# Altium footprint library Connector - FFC_FPC.PcbLib: 57 footprints (part 2 of 4)
Each footprint in its own frame and in the unit in brackets; x right, y up, seen from the top. Pads: shape width x height; smd on the part's side, far side on the other; paste and mask are expansions set on the pad; w line width, h text height; cw(c..) or ccw(c..) is an arc to the next point about the centre after c.
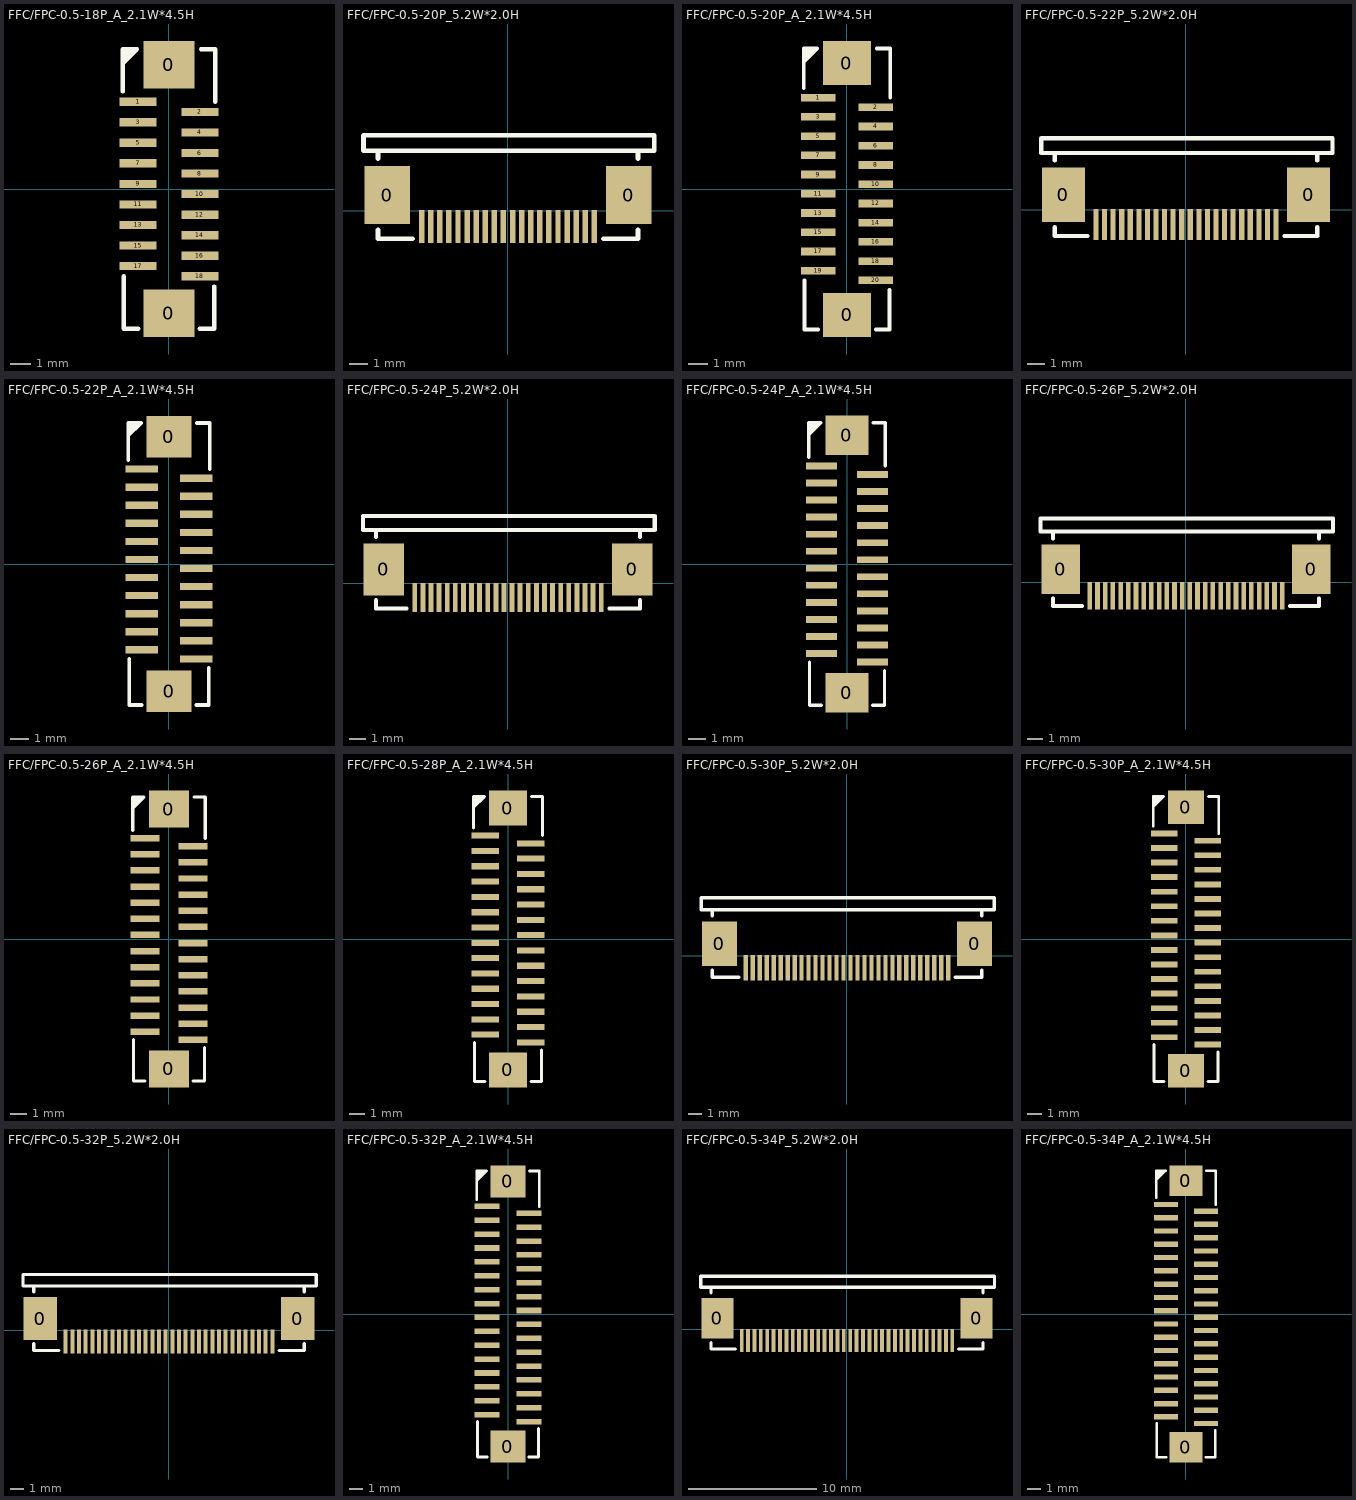
[diagram p1: the footprints below, top view; thin cyan lines are the x and y axes]

## FFC/FPC-0.5-18P_A_2.1W*4.5H [mm]
pads (20):
  rect 2.5x2.3 smd: 0(0,-6.05) 0(0,6.05)
  rect 1.8x0.4 smd: 1(-1.5,4.25) 2(1.5,3.75) 3(-1.5,3.25) 4(1.5,2.75) 5(-1.5,2.25) 6(1.5,1.75) 7(-1.5,1.25) 8(1.5,0.75) 9(-1.5,0.25) 10(1.5,-0.25) 11(-1.5,-0.75) 12(1.5,-1.25) 13(-1.5,-1.75) 14(1.5,-2.25) 15(-1.5,-2.75) 16(1.5,-3.25) 17(-1.5,-3.75) 18(1.5,-4.25)
Top Overlay:
  region: -2.25,6.8 -1.55,6.8 -2.25,6.1
  lines w0.203: -2.25,4.75 -2.25,6.8 -1.55,6.8 ; -2.25,6.1 -1.55,6.8 ; -2.2,-4.25 -2.2,-6.8 -1.5,-6.8 ; 1.5,-6.8 2.2,-6.8 2.2,-4.75 ; 1.55,6.8 2.25,6.8 2.25,4.25 ; -1.55,6.8 -1.55,6.8

## FFC/FPC-0.5-20P_5.2W*2.0H [mm]
pads (22):
  rect 2.5x3.2 smd: 0(-6.65,0.863) 0(6.65,0.863)
  rect 0.3x1.8 smd: 1(-4.75,-0.863) 2(-4.25,-0.863) 3(-3.75,-0.863) 4(-3.25,-0.863) 5(-2.75,-0.863) 6(-2.25,-0.863) 7(-1.75,-0.863) 8(-1.25,-0.863) 9(-0.75,-0.863) 10(-0.25,-0.863) 11(0.25,-0.863) 12(0.75,-0.863) 13(1.25,-0.863) 14(1.75,-0.863) 15(2.25,-0.863) 16(2.75,-0.863) 17(3.25,-0.863) 18(3.75,-0.863) 19(4.25,-0.863) 20(4.75,-0.863)
Top Overlay:
  lines w0.254: -7.15,-1.037 -7.15,-1.538 -5.25,-1.538 ; -7.15,2.863 -7.15,3.303 ; 5.25,-1.538 7.15,-1.538 7.15,-1.037 ; 7.15,2.863 7.15,3.303 ; 7.15,3.303 8.05,3.303 8.05,4.163 -7.95,4.163 -7.95,3.303 7.15,3.303

## FFC/FPC-0.5-20P_A_2.1W*4.5H [mm]
pads (22):
  rect 2.5x2.3 smd: 0(0,6.55) 0(0,-6.55)
  rect 1.8x0.4 smd: 1(-1.5,4.75) 2(1.5,4.25) 3(-1.5,3.75) 4(1.5,3.25) 5(-1.5,2.75) 6(1.5,2.25) 7(-1.5,1.75) 8(1.5,1.25) 9(-1.5,0.75) 10(1.5,0.25) 11(-1.5,-0.25) 12(1.5,-0.75) 13(-1.5,-1.25) 14(1.5,-1.75) 15(-1.5,-2.25) 16(1.5,-2.75) 17(-1.5,-3.25) 18(1.5,-3.75) 19(-1.5,-4.25) 20(1.5,-4.75)
Top Overlay:
  region: -2.25,7.3 -1.55,7.3 -2.25,6.6
  lines w0.203: -2.25,5.25 -2.25,7.3 -1.55,7.3 ; -2.25,6.6 -1.55,7.3 ; -2.2,-4.75 -2.2,-7.3 -1.5,-7.3 ; 1.5,-7.3 2.2,-7.3 2.2,-5.25 ; 1.55,7.3 2.25,7.3 2.25,4.75 ; -1.55,7.3 -1.55,7.3

## FFC/FPC-0.5-22P_5.2W*2.0H [mm]
pads (24):
  rect 2.5x3.2 smd: 0(-7.15,0.863) 0(7.15,0.863)
  rect 0.3x1.8 smd: 1(-5.25,-0.862) 2(-4.75,-0.862) 3(-4.25,-0.862) 4(-3.75,-0.862) 5(-3.25,-0.862) 6(-2.75,-0.862) 7(-2.25,-0.862) 8(-1.75,-0.862) 9(-1.25,-0.862) 10(-0.75,-0.862) 11(-0.25,-0.862) 12(0.25,-0.862) 13(0.75,-0.862) 14(1.25,-0.862) 15(1.75,-0.862) 16(2.25,-0.862) 17(2.75,-0.862) 18(3.25,-0.862) 19(3.75,-0.862) 20(4.25,-0.862) 21(4.75,-0.862) 22(5.25,-0.862)
Top Overlay:
  lines w0.254: -7.65,-1.037 -7.65,-1.537 -5.75,-1.537 ; -7.65,2.863 -7.65,3.303 ; 5.75,-1.537 7.65,-1.537 7.65,-1.037 ; 7.65,2.863 7.65,3.303 ; 7.65,3.303 -8.45,3.303 -8.45,4.163 8.55,4.163 8.55,3.303 7.65,3.303

## FFC/FPC-0.5-22P_A_2.1W*4.5H [mm]
pads (24):
  rect 2.5x2.3 smd: 0(0,7.05) 0(0,-7.05)
  rect 1.8x0.4 smd: 1(-1.5,5.25) 2(1.5,4.75) 3(-1.5,4.25) 4(1.5,3.75) 5(-1.5,3.25) 6(1.5,2.75) 7(-1.5,2.25) 8(1.5,1.75) 9(-1.5,1.25) 10(1.5,0.75) 11(-1.5,0.25) 12(1.5,-0.25) 13(-1.5,-0.75) 14(1.5,-1.25) 15(-1.5,-1.75) 16(1.5,-2.25) 17(-1.5,-2.75) 18(1.5,-3.25) 19(-1.5,-3.75) 20(1.5,-4.25) 21(-1.5,-4.75) 22(1.5,-5.25)
Top Overlay:
  region: -2.25,7.8 -1.55,7.8 -2.25,7.1
  lines w0.203: -2.25,5.75 -2.25,7.8 -1.55,7.8 ; -2.25,7.1 -1.55,7.8 ; -2.2,-5.25 -2.2,-7.8 -1.5,-7.8 ; 1.5,-7.8 2.2,-7.8 2.2,-5.75 ; 1.55,7.8 2.25,7.8 2.25,5.25 ; -1.55,7.8 -1.55,7.8

## FFC/FPC-0.5-24P_5.2W*2.0H [mm]
pads (26):
  rect 2.5x3.2 smd: 0(-7.65,0.863) 0(7.65,0.863)
  rect 0.3x1.8 smd: 1(-5.75,-0.863) 2(-5.25,-0.863) 3(-4.75,-0.863) 4(-4.25,-0.863) 5(-3.75,-0.863) 6(-3.25,-0.863) 7(-2.75,-0.863) 8(-2.25,-0.863) 9(-1.75,-0.863) 10(-1.25,-0.863) 11(-0.75,-0.863) 12(-0.25,-0.863) 13(0.25,-0.863) 14(0.75,-0.863) 15(1.25,-0.863) 16(1.75,-0.863) 17(2.25,-0.863) 18(2.75,-0.863) 19(3.25,-0.863) 20(3.75,-0.863) 21(4.25,-0.863) 22(4.75,-0.863) 23(5.25,-0.863) 24(5.75,-0.863)
Top Overlay:
  lines w0.254: -8.15,-1.037 -8.15,-1.538 -6.25,-1.538 ; -8.15,2.863 -8.15,3.303 ; 6.25,-1.538 8.15,-1.538 8.15,-1.037 ; 8.15,2.863 8.15,3.303 ; 8.15,3.303 -8.95,3.303 -8.95,4.163 9.05,4.163 9.05,3.303 8.15,3.303
3D body "71127.stp": height 1.82, standoff -0.05, extent -8.75,-0.9 8.75,4

## FFC/FPC-0.5-24P_A_2.1W*4.5H [mm]
pads (26):
  rect 2.5x2.3 smd: 0(0,-7.55) 0(0,7.55)
  rect 1.8x0.4 smd: 1(-1.5,5.75) 2(1.5,5.25) 3(-1.5,4.75) 4(1.5,4.25) 5(-1.5,3.75) 6(1.5,3.25) 7(-1.5,2.75) 8(1.5,2.25) 9(-1.5,1.75) 10(1.5,1.25) 11(-1.5,0.75) 12(1.5,0.25) 13(-1.5,-0.25) 14(1.5,-0.75) 15(-1.5,-1.25) 16(1.5,-1.75) 17(-1.5,-2.25) 18(1.5,-2.75) 19(-1.5,-3.25) 20(1.5,-3.75) 21(-1.5,-4.25) 22(1.5,-4.75) 23(-1.5,-5.25) 24(1.5,-5.75)
Top Overlay:
  region: -2.25,8.3 -1.55,8.3 -2.25,7.6
  lines w0.203: -2.25,6.25 -2.25,8.3 -1.55,8.3 ; -2.25,7.6 -1.55,8.3 ; -2.2,-5.75 -2.2,-8.3 -1.5,-8.3 ; 1.5,-8.3 2.2,-8.3 2.2,-6.25 ; 1.55,8.3 2.25,8.3 2.25,5.75 ; -1.55,8.3 -1.55,8.3

## FFC/FPC-0.5-26P_5.2W*2.0H [mm]
pads (28):
  rect 2.5x3.2 smd: 0(-8.15,0.863) 0(8.15,0.863)
  rect 0.3x1.8 smd: 1(-6.25,-0.863) 2(-5.75,-0.863) 3(-5.25,-0.863) 4(-4.75,-0.863) 5(-4.25,-0.863) 6(-3.75,-0.863) 7(-3.25,-0.863) 8(-2.75,-0.863) 9(-2.25,-0.863) 10(-1.75,-0.863) 11(-1.25,-0.863) 12(-0.75,-0.863) 13(-0.25,-0.863) 14(0.25,-0.863) 15(0.75,-0.863) 16(1.25,-0.863) 17(1.75,-0.863) 18(2.25,-0.863) 19(2.75,-0.863) 20(3.25,-0.863) 21(3.75,-0.863) 22(4.25,-0.863) 23(4.75,-0.863) 24(5.25,-0.863) 25(5.75,-0.863) 26(6.25,-0.863)
Top Overlay:
  lines w0.254: -8.65,-1.037 -8.65,-1.538 -6.75,-1.538 ; -8.65,2.863 -8.65,3.303 ; 6.75,-1.538 8.65,-1.538 8.65,-1.037 ; 8.65,2.863 8.65,3.303 ; 8.65,3.303 -9.45,3.303 -9.45,4.163 9.55,4.163 9.55,3.303 8.65,3.303

## FFC/FPC-0.5-26P_A_2.1W*4.5H [mm]
pads (28):
  rect 2.5x2.3 smd: 0(0,-8.05) 0(0,8.05)
  rect 1.8x0.4 smd: 1(-1.5,6.25) 2(1.5,5.75) 3(-1.5,5.25) 4(1.5,4.75) 5(-1.5,4.25) 6(1.5,3.75) 7(-1.5,3.25) 8(1.5,2.75) 9(-1.5,2.25) 10(1.5,1.75) 11(-1.5,1.25) 12(1.5,0.75) 13(-1.5,0.25) 14(1.5,-0.25) 15(-1.5,-0.75) 16(1.5,-1.25) 17(-1.5,-1.75) 18(1.5,-2.25) 19(-1.5,-2.75) 20(1.5,-3.25) 21(-1.5,-3.75) 22(1.5,-4.25) 23(-1.5,-4.75) 24(1.5,-5.25) 25(-1.5,-5.75) 26(1.5,-6.25)
Top Overlay:
  region: -2.25,8.8 -1.55,8.8 -2.25,8.1
  lines w0.203: -2.25,6.75 -2.25,8.8 -1.55,8.8 ; -2.25,8.1 -1.55,8.8 ; -2.2,-6.25 -2.2,-8.8 -1.5,-8.8 ; 1.5,-8.8 2.2,-8.8 2.2,-6.75 ; 1.55,8.8 2.25,8.8 2.25,6.25 ; -1.55,8.8 -1.55,8.8

## FFC/FPC-0.5-28P_A_2.1W*4.5H [mm]
pads (30):
  rect 2.5x2.3 smd: 0(0,-8.55) 0(0,8.55)
  rect 1.8x0.4 smd: 1(-1.5,6.75) 2(1.5,6.25) 3(-1.5,5.75) 4(1.5,5.25) 5(-1.5,4.75) 6(1.5,4.25) 7(-1.5,3.75) 8(1.5,3.25) 9(-1.5,2.75) 10(1.5,2.25) 11(-1.5,1.75) 12(1.5,1.25) 13(-1.5,0.75) 14(1.5,0.25) 15(-1.5,-0.25) 16(1.5,-0.75) 17(-1.5,-1.25) 18(1.5,-1.75) 19(-1.5,-2.25) 20(1.5,-2.75) 21(-1.5,-3.25) 22(1.5,-3.75) 23(-1.5,-4.25) 24(1.5,-4.75) 25(-1.5,-5.25) 26(1.5,-5.75) 27(-1.5,-6.25) 28(1.5,-6.75)
Top Overlay:
  region: -2.25,9.3 -1.55,9.3 -2.25,8.6
  lines w0.203: -2.25,7.25 -2.25,9.3 -1.55,9.3 ; -2.25,8.6 -1.55,9.3 ; -2.2,-6.75 -2.2,-9.3 -1.5,-9.3 ; 1.5,-9.3 2.2,-9.3 2.2,-7.25 ; 1.55,9.3 2.25,9.3 2.25,6.75 ; -1.55,9.3 -1.55,9.3

## FFC/FPC-0.5-30P_5.2W*2.0H [mm]
pads (32):
  rect 2.5x3.2 smd: 0(-9.15,0.863) 0(9.15,0.863)
  rect 0.3x1.8 smd: 1(-7.25,-0.863) 2(-6.75,-0.863) 3(-6.25,-0.863) 4(-5.75,-0.863) 5(-5.25,-0.863) 6(-4.75,-0.863) 7(-4.25,-0.863) 8(-3.75,-0.863) 9(-3.25,-0.863) 10(-2.75,-0.863) 11(-2.25,-0.863) 12(-1.75,-0.863) 13(-1.25,-0.863) 14(-0.75,-0.863) 15(-0.25,-0.863) 16(0.25,-0.863) 17(0.75,-0.863) 18(1.25,-0.863) 19(1.75,-0.863) 20(2.25,-0.863) 21(2.75,-0.863) 22(3.25,-0.863) 23(3.75,-0.863) 24(4.25,-0.863) 25(4.75,-0.863) 26(5.25,-0.863) 27(5.75,-0.863) 28(6.25,-0.863) 29(6.75,-0.863) 30(7.25,-0.863)
Top Overlay:
  lines w0.254: -9.65,-1.037 -9.65,-1.538 -7.75,-1.538 ; -9.65,2.863 -9.65,3.303 ; 7.75,-1.538 9.65,-1.538 9.65,-1.037 ; 9.65,2.863 9.65,3.303 ; 9.65,3.303 -10.45,3.303 -10.45,4.163 10.55,4.163 10.55,3.303 9.65,3.303

## FFC/FPC-0.5-30P_A_2.1W*4.5H [mm]
pads (32):
  rect 2.5x2.3 smd: 0(0,-9.05) 0(0,9.05)
  rect 1.8x0.4 smd: 1(-1.5,7.25) 2(1.5,6.75) 3(-1.5,6.25) 4(1.5,5.75) 5(-1.5,5.25) 6(1.5,4.75) 7(-1.5,4.25) 8(1.5,3.75) 9(-1.5,3.25) 10(1.5,2.75) 11(-1.5,2.25) 12(1.5,1.75) 13(-1.5,1.25) 14(1.5,0.75) 15(-1.5,0.25) 16(1.5,-0.25) 17(-1.5,-0.75) 18(1.5,-1.25) 19(-1.5,-1.75) 20(1.5,-2.25) 21(-1.5,-2.75) 22(1.5,-3.25) 23(-1.5,-3.75) 24(1.5,-4.25) 25(-1.5,-4.75) 26(1.5,-5.25) 27(-1.5,-5.75) 28(1.5,-6.25) 29(-1.5,-6.75) 30(1.5,-7.25)
Top Overlay:
  region: -2.25,9.8 -1.55,9.8 -2.25,9.1
  lines w0.203: -2.25,7.75 -2.25,9.8 -1.55,9.8 ; -2.25,9.1 -1.55,9.8 ; -2.2,-7.25 -2.2,-9.8 -1.5,-9.8 ; 1.5,-9.8 2.2,-9.8 2.2,-7.75 ; 1.55,9.8 2.25,9.8 2.25,7.25 ; -1.55,9.8 -1.55,9.8

## FFC/FPC-0.5-32P_5.2W*2.0H [mm]
pads (34):
  rect 2.5x3.2 smd: 0(-9.65,0.863) 0(9.65,0.863)
  rect 0.3x1.8 smd: 1(-7.75,-0.862) 2(-7.25,-0.862) 3(-6.75,-0.862) 4(-6.25,-0.862) 5(-5.75,-0.862) 6(-5.25,-0.862) 7(-4.75,-0.862) 8(-4.25,-0.862) 9(-3.75,-0.862) 10(-3.25,-0.862) 11(-2.75,-0.862) 12(-2.25,-0.862) 13(-1.75,-0.862) 14(-1.25,-0.862) 15(-0.75,-0.862) 16(-0.25,-0.862) 17(0.25,-0.862) 18(0.75,-0.862) 19(1.25,-0.862) 20(1.75,-0.862) 21(2.25,-0.862) 22(2.75,-0.862) 23(3.25,-0.862) 24(3.75,-0.862) 25(4.25,-0.862) 26(4.75,-0.862) 27(5.25,-0.862) 28(5.75,-0.862) 29(6.25,-0.862) 30(6.75,-0.862) 31(7.25,-0.862) 32(7.75,-0.862)
Top Overlay:
  lines w0.254: -10.15,-1.037 -10.15,-1.537 -8.25,-1.537 ; -10.15,2.863 -10.15,3.303 ; 8.25,-1.537 10.15,-1.537 10.15,-1.037 ; 10.15,2.863 10.15,3.303 ; 10.15,3.303 -10.95,3.303 -10.95,4.163 11.05,4.163 11.05,3.303 10.15,3.303

## FFC/FPC-0.5-32P_A_2.1W*4.5H [mm]
pads (34):
  rect 2.5x2.3 smd: 0(0,-9.55) 0(0,9.55)
  rect 1.8x0.4 smd: 1(-1.5,7.75) 2(1.5,7.25) 3(-1.5,6.75) 4(1.5,6.25) 5(-1.5,5.75) 6(1.5,5.25) 7(-1.5,4.75) 8(1.5,4.25) 9(-1.5,3.75) 10(1.5,3.25) 11(-1.5,2.75) 12(1.5,2.25) 13(-1.5,1.75) 14(1.5,1.25) 15(-1.5,0.75) 16(1.5,0.25) 17(-1.5,-0.25) 18(1.5,-0.75) 19(-1.5,-1.25) 20(1.5,-1.75) 21(-1.5,-2.25) 22(1.5,-2.75) 23(-1.5,-3.25) 24(1.5,-3.75) 25(-1.5,-4.25) 26(1.5,-4.75) 27(-1.5,-5.25) 28(1.5,-5.75) 29(-1.5,-6.25) 30(1.5,-6.75) 31(-1.5,-7.25) 32(1.5,-7.75)
Top Overlay:
  region: -2.25,10.3 -1.55,10.3 -2.25,9.6
  lines w0.203: -2.25,8.25 -2.25,10.3 -1.55,10.3 ; -2.25,9.6 -1.55,10.3 ; -2.2,-7.75 -2.2,-10.3 -1.5,-10.3 ; 1.5,-10.3 2.2,-10.3 2.2,-8.25 ; 1.55,10.3 2.25,10.3 2.25,7.75 ; -1.55,10.3 -1.55,10.3

## FFC/FPC-0.5-34P_5.2W*2.0H [mm]
pads (36):
  rect 2.5x3.2 smd: 0(-10.15,0.863) 0(10.15,0.863)
  rect 0.3x1.8 smd: 1(-8.25,-0.863) 2(-7.75,-0.863) 3(-7.25,-0.863) 4(-6.75,-0.863) 5(-6.25,-0.863) 6(-5.75,-0.863) 7(-5.25,-0.863) 8(-4.75,-0.863) 9(-4.25,-0.863) 10(-3.75,-0.863) 11(-3.25,-0.863) 12(-2.75,-0.863) 13(-2.25,-0.863) 14(-1.75,-0.863) 15(-1.25,-0.863) 16(-0.75,-0.863) 17(-0.25,-0.863) 18(0.25,-0.863) 19(0.75,-0.863) 20(1.25,-0.863) 21(1.75,-0.863) 22(2.25,-0.863) 23(2.75,-0.863) 24(3.25,-0.863) 25(3.75,-0.863) 26(4.25,-0.863) 27(4.75,-0.863) 28(5.25,-0.863) 29(5.75,-0.863) 30(6.25,-0.863) 31(6.75,-0.863) 32(7.25,-0.863) 33(7.75,-0.863) 34(8.25,-0.863)
Top Overlay:
  lines w0.254: -10.65,-1.037 -10.65,-1.538 -8.75,-1.538 ; -10.65,2.863 -10.65,3.303 ; 8.75,-1.538 10.65,-1.538 10.65,-1.037 ; 10.65,2.863 10.65,3.303 ; 10.65,3.303 -11.45,3.303 -11.45,4.163 11.55,4.163 11.55,3.303 10.65,3.303

## FFC/FPC-0.5-34P_A_2.1W*4.5H [mm]
pads (36):
  rect 2.5x2.3 smd: 0(0,-10.05) 0(0,10.05)
  rect 1.8x0.4 smd: 1(-1.5,8.25) 2(1.5,7.75) 3(-1.5,7.25) 4(1.5,6.75) 5(-1.5,6.25) 6(1.5,5.75) 7(-1.5,5.25) 8(1.5,4.75) 9(-1.5,4.25) 10(1.5,3.75) 11(-1.5,3.25) 12(1.5,2.75) 13(-1.5,2.25) 14(1.5,1.75) 15(-1.5,1.25) 16(1.5,0.75) 17(-1.5,0.25) 18(1.5,-0.25) 19(-1.5,-0.75) 20(1.5,-1.25) 21(-1.5,-1.75) 22(1.5,-2.25) 23(-1.5,-2.75) 24(1.5,-3.25) 25(-1.5,-3.75) 26(1.5,-4.25) 27(-1.5,-4.75) 28(1.5,-5.25) 29(-1.5,-5.75) 30(1.5,-6.25) 31(-1.5,-6.75) 32(1.5,-7.25) 33(-1.5,-7.75) 34(1.5,-8.25)
Top Overlay:
  region: -2.25,10.8 -1.55,10.8 -2.25,10.1
  lines w0.203: -2.25,8.75 -2.25,10.8 -1.55,10.8 ; -2.25,10.1 -1.55,10.8 ; -2.2,-8.25 -2.2,-10.8 -1.5,-10.8 ; 1.5,-10.8 2.2,-10.8 2.2,-8.75 ; 1.55,10.8 2.25,10.8 2.25,8.25 ; -1.55,10.8 -1.55,10.8